# EAGLE library part SLV6A-FKB (library CREE_LEDs)
RGB LEDs, Independent
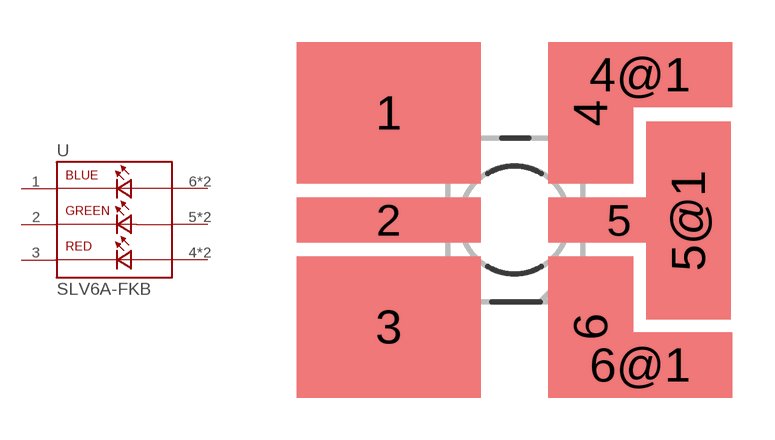
[diagram p0: symbol with the pads of PLCC6; footprint PLCC6]

Designator prefix U

## SLV6A-FKB  [PLCC6]
1  BLUE_C  pas
2  GREEN_C  pas
3  RED_C  pas
4  RED_A  pas
4@1  RED_A  pas
5  GREEN_A  pas
5@1  GREEN_A  pas
6  BLUE_A  pas
6@1  BLUE_A  pas

## Footprint PLCC6 (pad centres in mm)
Full Color PLCC6 LED OVSTRGBBCR8 Source: www.optekinc.com .. ovstrgbbcr8.pdf
smd 6.5 x 5: 1 -4.442,3.786; 3 -4.442,-3.786
smd 6.5 x 1.6: 2 -4.442,0
smd 3 x 5: 4 2.692,3.786; 6 2.692,-3.786
smd 6.5 x 2.3: 4@1 4.442,5.136; 6@1 4.442,-5.136
smd 5 x 1.6: 5 3.692,0
smd 3 x 7: 5@1 6.15,-0.025